# Altium integrated library Analog Devices Data Converters Analog-to-Digital Converters.IntLib: 2400 symbols (part 269 of 338)
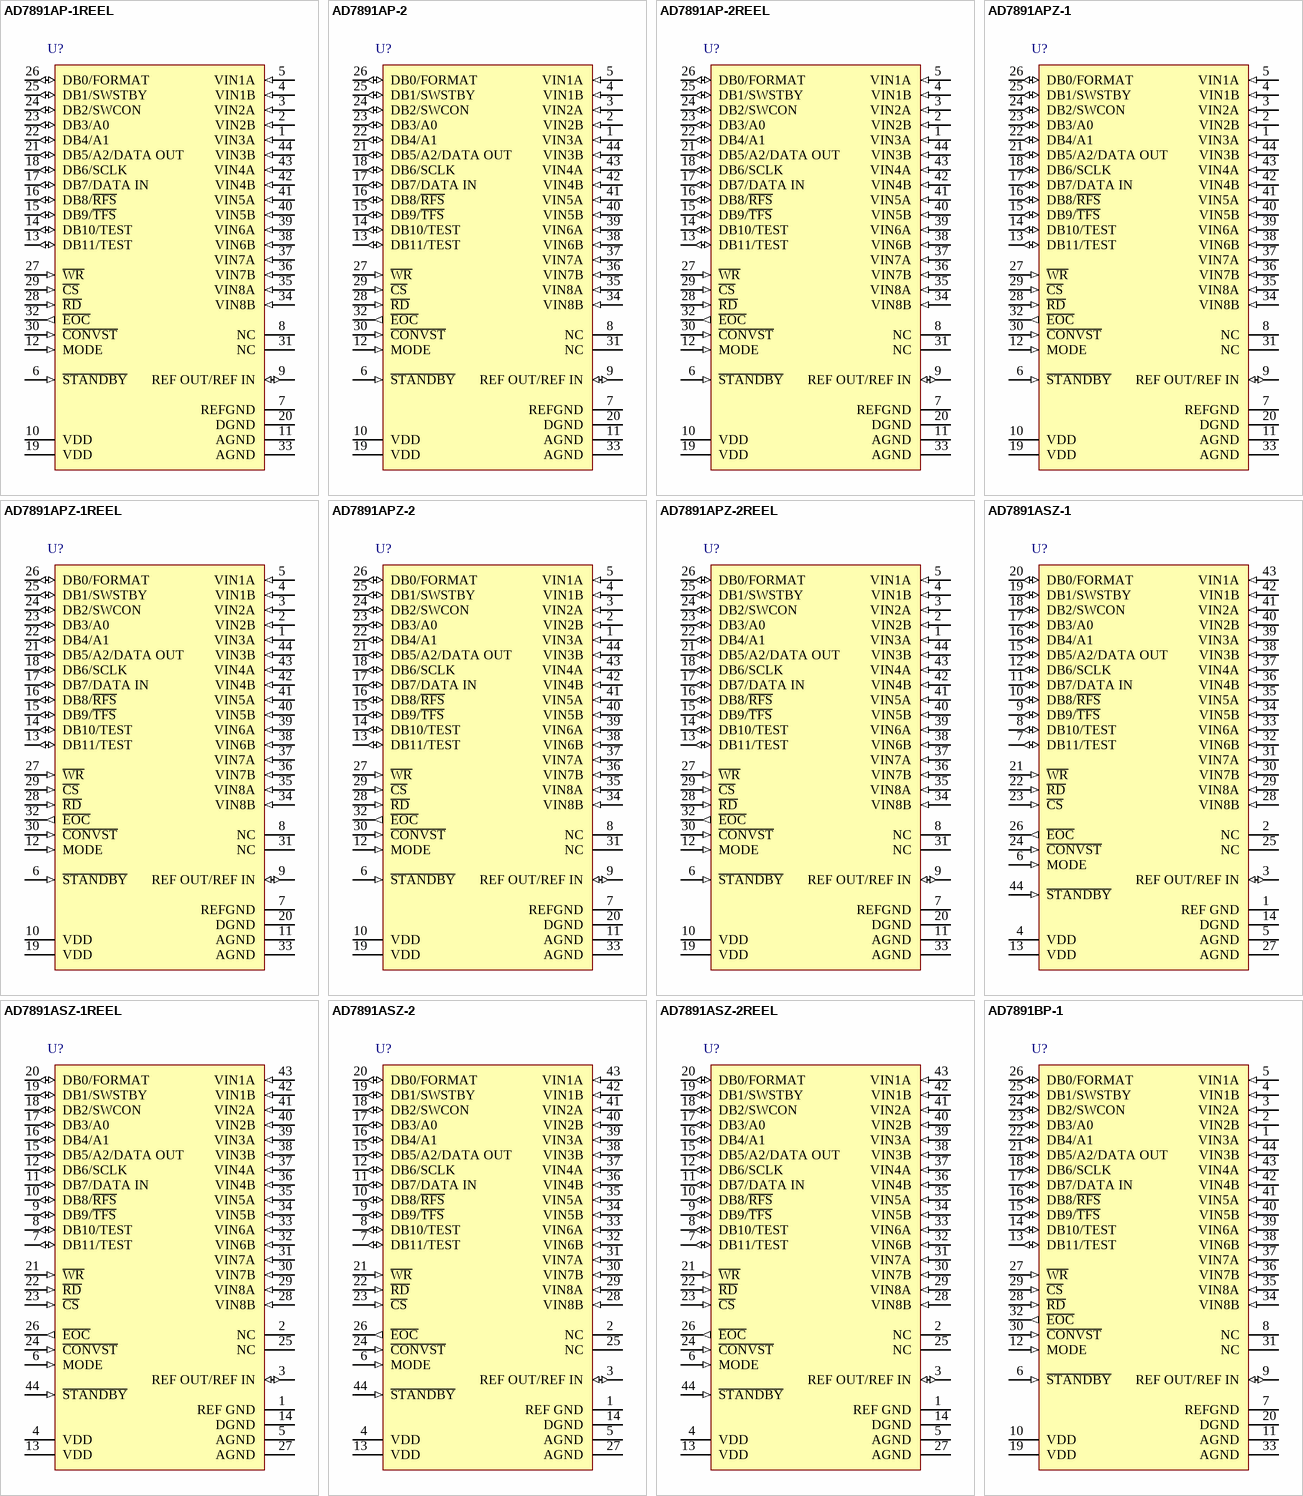
[diagram p300: symbols AD7891AP-1REEL to AD7891BP-1]

## AD7891APZ-1
designator U?
LC2MOS 8 Channel, 12-Bit High Speed Data Acquisition System, 500KSPS, -40 to +85 degC, P-44A, Pb-Free, Tube; Part Number: AD7891; Manufacturer: Analog Devices; Resolution (Bits): 12; Channels: 8; Throughput Rate (SPS): 500K; Interface: Par, Ser; DatasheetVersion: Rev.D; PackageVersion: 2003; PackageReference: P-44A; PackageDescription: 44-Lead Plastic Leaded Chip Carrier [PLCC]; RoHS: Y; Packing: Tube; Mounting Technology: Surface Mount; Code_JEDEC: MO-047-AC; Code_IPC: PLCC-44; ComponentLink1Description: Manufacturer URL; ComponentLink1URL: http://www.analog.com/en/index.html; ComponentLink2Description: Datasheet; ComponentLink2URL: http://www.analog.com/static/imported-files/data_sheets/AD7891.pdf; ComponentLink3Description: Package Specification; ComponentLink3URL: http://www.analog.com/static/imported-files/packages/533756178731793364534243243792136664964P44A.pdf; ComponentLink4Description: Product URL; ComponentLink4URL: http://www.analog.com/en/analog-to-digital-converters/ad-converters/ad7891/products/product.html
footprint P-44A_N (Leaded Chip Carrier, 44-Leads, Body 16.6x16.6mm, Pitch 1.27mm, IPC Medium Density)
footprint P-44A_L (Leaded Chip Carrier, 44-Leads, Body 16.6x16.6mm, Pitch 1.27mm, IPC High Density)
footprint P-44A_M (Leaded Chip Carrier, 44-Leads, Body 16.6x16.6mm, Pitch 1.27mm, IPC Low Density)
pins: 1 VIN3A (in) "Analog Input Channels. The AD7891 contains eight pairs of analog input channels. Each channel contains two input pins to allow a number of different input ranges to be used with the AD7891. There are two possible input (See Datasheet)", 2 VIN2B (in) "Analog Input Channels. The AD7891 contains eight pairs of analog input channels. Each channel contains two input pins to allow a number of different input ranges to be used with the AD7891. There are two possible input (See Datasheet)", 3 VIN2A (in) "Analog Input Channels. The AD7891 contains eight pairs of analog input channels. Each channel contains two input pins to allow a number of different input ranges to be used with the AD7891. There are two possible input (See Datasheet)", 4 VIN1B (in) "Analog Input Channels. The AD7891 contains eight pairs of analog input channels. Each channel contains two input pins to allow a number of different input ranges to be used with the AD7891. There are two possible input (See Datasheet)", 5 VIN1A (in) "Analog Input Channels. The AD7891 contains eight pairs of analog input channels. Each channel contains two input pins to allow a number of different input ranges to be used with the AD7891. There are two possible input (See Datasheet)", 6 ~{STANDBY} (in) "Standby Mode Input. TTL compatible input used to put the device into the power save or standby mode. The S\T\A\N\D\B\Y\ input is high for normal operation and low for standby operation.", 7 REFGND (power) "Reference Ground. Ground reference for the part’s on-chip reference buffer. The REF OUT pin of the part should be decoupled with a 0.1 mF capacitor to this REF GND pin. If the AD7891 is used with an external reference, the (See Datasheet)", 8 NC "No Connect. The two NC pins on the device can be left unconnected. If they are to be connected to a voltage, it should be to ground potential. To ensure correct operation of the AD7891, neither of the NC pins should be (See Datasheet)", 9 REF OUT/REF IN (io) "Voltage Reference Output/Input. The part can either be used with its own internal reference or with an external reference source. The on-chip 2.5 V reference voltage is provided at this pin. When using this internal (See Datasheet)", 10 VDD (power) "Positive Supply Voltage, 5 V +/- 5%.", 11 AGND (power) "Analog Ground. Ground reference for track/hold, comparator, and DAC.", 12 MODE (in) "Interface Mode. Control input that determines the interface mode for the part. With this pin at a logic low, the AD7891 is in its serial interface mode; with this pin at a logic high, the device is in its parallel interface (See Datasheet)", 13 DB11/TEST (io) "Data Bit 11(MSB). Three-state TTL compatible outputs that are controlled by the CS and RD inputs./Test Pin. When the device is configured for serial mode of operation,two of the pins which had   been data inputs become test (See Datasheet)", 14 DB10/TEST (io) "Data Bit 10. Three-state TTL compatible outputs that are controlled by the CS and RD inputs./Test Pin. When the device is configured for serial mode of operation,two of the pins which had   been data inputs become test (See Datasheet)", 15 DB9/~{TFS} (io) "Data Bit 9. Three-state TTL compatible outputs that are controlled by the CS and RD inputs./Transmit Frame Synchronization Pulse. Active low logic input with serial data expected after the falling edge of this signal.", 16 DB8/~{RFS} (io) "Data Bit 8. Three-state TTL compatible outputs that are controlled by the CS and RD inputs./Receive Frame Synchronization Pulse. This is an active low logic input with RFS provided externally as a strobe or framing pulse to (See Datasheet)", 17 DB7/DATA IN (io) "Data Bit 7. Three-state TTL compatible outputs that are controlled by the CS and RD inputs./Serial Data Input. Serial data to be loaded to the control register is provided at this input. The first six bits of serial data are (See Datasheet)", 18 DB6/SCLK (io) "Data Bit 6. Three-state TTL compatible outputs that are controlled by the CS and RD inputs./Serial Clock Input. This is an externally applied serial clock that is used to load serial data to the control register and to (See Datasheet)", 19 VDD (power) "Positive Supply Voltage, 5 V +/- 5%.", 20 DGND (power) "Digital Ground. Ground reference for digital circuitry.", 21 DB5/A2/DATA OUT (io) "Data Bit 5. Three-state TTL compatible outputs that are controlled by the CS and RD inputs./Address Input. The status of this input during a parallel write operation is latched to the A2 bit of the control register (see (See Datasheet)", 22 DB4/A1 (io) "Data Bit 4. Three-state TTL compatible outputs that are controlled by the CS and RD inputs./Address Input. The status of this input during a parallel write operation is latched to the A1 bit of the control register (see (See Datasheet)", 23 DB3/A0 (io) "Data Bit 3. Three-state TTL compatible outputs that are controlled by the CS and RD inputs./Address Input. The status of this input during a parallel write operation is latched to the A0 bit of the control register (see (See Datasheet)", 24 DB2/SWCON (io) "Data Bit 2. Three-state TTL compatible outputs that are controlled by the CS and RD inputs./Software Conversion Start. The status of this input during a parallel write operation is latched to the SWCONV bit of the control (See Datasheet)", 25 DB1/SWSTBY (io) "Data Bit 1. Three-state TTL compatible outputs that are controlled by the CS and RD inputs./Software Standby Control. The status of this input during a parallel write operation is latched to the SWSTBY bit of the control (See Datasheet)", 26 DB0/FORMAT (io) "Data Bit 0 (LSB). Three-state TTL compatible outputs that are controlled by the CS and RD inputs./Data Format Selection. The status of this input during a parallel write operation is latched to the FORMAT bit of the control (See Datasheet)", 27 ~{WR} (in) "Write Input. Active low logic input used in conjunction with C\S\ to latch the multiplexer address and software control information. The rising edge of this input also initiates an internal pulse. When using the software (See Datasheet)", 28 ~{RD} (in) "Read Input. Active low logic input that is used in conjunction with C\S\ low to enable the data outputs.", 29 ~{CS} (in) "Chip Select Input. Active low logic input that is used in conjunction with to enable the data outputs and with W\R\ to allow input data to be written to the part.", 30 ~{CONVST} (in) "Convert Start. Edge-triggered logic input. A low-to-high transition on this input puts the track/hold into hold and initiates conversion. When changing channels on the part, sufficient time should be given for multiplexer (See Datasheet)", 31 NC "No Connect. The two NC pins on the device can be left unconnected. If they are to be connected to a voltage, it should be to ground potential. To ensure correct operation of the AD7891, neither of the NC pins should be (See Datasheet)", 32 ~{EOC} (out) "End-of-Conversion. Active low logic output indicating converter status. The end of conversion is signified by a low-going pulse on this line. The duration of this E\O\C\ pulse is nominally 80 ns.", 33 AGND (power) "Analog Ground. Ground reference for track/hold, comparator, and DAC.", 34 VIN8B (in) "Analog Input Channels. The AD7891 contains eight pairs of analog input channels. Each 34-44 channel contains two input pins to allow a number of different input ranges to be used with the AD7891. There are two possible input (See Datasheet)", 35 VIN8A (in) "Analog Input Channels. The AD7891 contains eight pairs of analog input channels. Each 34-44 channel contains two input pins to allow a number of different input ranges to be used with the AD7891. There are two possible input (See Datasheet)", 36 VIN7B (in) "Analog Input Channels. The AD7891 contains eight pairs of analog input channels. Each 34-44 channel contains two input pins to allow a number of different input ranges to be used with the AD7891. There are two possible input (See Datasheet)", 37 VIN7A (in) "Analog Input Channels. The AD7891 contains eight pairs of analog input channels. Each 34-44 channel contains two input pins to allow a number of different input ranges to be used with the AD7891. There are two possible input (See Datasheet)", 38 VIN6B (in) "Analog Input Channels. The AD7891 contains eight pairs of analog input channels. Each 34-44 channel contains two input pins to allow a number of different input ranges to be used with the AD7891. There are two possible input (See Datasheet)", 39 VIN6A (in) "Analog Input Channels. The AD7891 contains eight pairs of analog input channels. Each 34-44 channel contains two input pins to allow a number of different input ranges to be used with the AD7891. There are two possible input (See Datasheet)", 40 VIN5B (in) "Analog Input Channels. The AD7891 contains eight pairs of analog input channels. Each 34-44 channel contains two input pins to allow a number of different input ranges to be used with the AD7891. There are two possible input (See Datasheet)", 41 VIN5A (in) "Analog Input Channels. The AD7891 contains eight pairs of analog input channels. Each 34-44 channel contains two input pins to allow a number of different input ranges to be used with the AD7891. There are two possible input (See Datasheet)", 42 VIN4B (in) "Analog Input Channels. The AD7891 contains eight pairs of analog input channels. Each 34-44 channel contains two input pins to allow a number of different input ranges to be used with the AD7891. There are two possible input (See Datasheet)", 43 VIN4A (in) "Analog Input Channels. The AD7891 contains eight pairs of analog input channels. Each 34-44 channel contains two input pins to allow a number of different input ranges to be used with the AD7891. There are two possible input (See Datasheet)", 44 VIN3B (in) "Analog Input Channels. The AD7891 contains eight pairs of analog input channels. Each 34-44 channel contains two input pins to allow a number of different input ranges to be used with the AD7891. There are two possible input (See Datasheet)"

## AD7891APZ-1REEL
designator U?
LC2MOS 8 Channel, 12-Bit High Speed Data Acquisition System, 500KSPS, -40 to +85 degC, P-44A, Pb-Free, Reel; Part Number: AD7891; Manufacturer: Analog Devices; Resolution (Bits): 12; Channels: 8; Throughput Rate (SPS): 500K; Interface: Par, Ser; DatasheetVersion: Rev.D; PackageVersion: 2003; PackageReference: P-44A; PackageDescription: 44-Lead Plastic Leaded Chip Carrier [PLCC]; RoHS: Y; Packing: Reel; Mounting Technology: Surface Mount; Code_JEDEC: MO-047-AC; Code_IPC: PLCC-44; ComponentLink1Description: Manufacturer URL; ComponentLink1URL: http://www.analog.com/en/index.html; ComponentLink2Description: Datasheet; ComponentLink2URL: http://www.analog.com/static/imported-files/data_sheets/AD7891.pdf; ComponentLink3Description: Package Specification; ComponentLink3URL: http://www.analog.com/static/imported-files/packages/533756178731793364534243243792136664964P44A.pdf; ComponentLink4Description: Product URL; ComponentLink4URL: http://www.analog.com/en/analog-to-digital-converters/ad-converters/ad7891/products/product.html
footprint P-44A_N (Leaded Chip Carrier, 44-Leads, Body 16.6x16.6mm, Pitch 1.27mm, IPC Medium Density)
footprint P-44A_L (Leaded Chip Carrier, 44-Leads, Body 16.6x16.6mm, Pitch 1.27mm, IPC High Density)
footprint P-44A_M (Leaded Chip Carrier, 44-Leads, Body 16.6x16.6mm, Pitch 1.27mm, IPC Low Density)
pins: 1 VIN3A (in) "Analog Input Channels. The AD7891 contains eight pairs of analog input channels. Each channel contains two input pins to allow a number of different input ranges to be used with the AD7891. There are two possible input (See Datasheet)", 2 VIN2B (in) "Analog Input Channels. The AD7891 contains eight pairs of analog input channels. Each channel contains two input pins to allow a number of different input ranges to be used with the AD7891. There are two possible input (See Datasheet)", 3 VIN2A (in) "Analog Input Channels. The AD7891 contains eight pairs of analog input channels. Each channel contains two input pins to allow a number of different input ranges to be used with the AD7891. There are two possible input (See Datasheet)", 4 VIN1B (in) "Analog Input Channels. The AD7891 contains eight pairs of analog input channels. Each channel contains two input pins to allow a number of different input ranges to be used with the AD7891. There are two possible input (See Datasheet)", 5 VIN1A (in) "Analog Input Channels. The AD7891 contains eight pairs of analog input channels. Each channel contains two input pins to allow a number of different input ranges to be used with the AD7891. There are two possible input (See Datasheet)", 6 ~{STANDBY} (in) "Standby Mode Input. TTL compatible input used to put the device into the power save or standby mode. The S\T\A\N\D\B\Y\ input is high for normal operation and low for standby operation.", 7 REFGND (power) "Reference Ground. Ground reference for the part’s on-chip reference buffer. The REF OUT pin of the part should be decoupled with a 0.1 mF capacitor to this REF GND pin. If the AD7891 is used with an external reference, the (See Datasheet)", 8 NC "No Connect. The two NC pins on the device can be left unconnected. If they are to be connected to a voltage, it should be to ground potential. To ensure correct operation of the AD7891, neither of the NC pins should be (See Datasheet)", 9 REF OUT/REF IN (io) "Voltage Reference Output/Input. The part can either be used with its own internal reference or with an external reference source. The on-chip 2.5 V reference voltage is provided at this pin. When using this internal (See Datasheet)", 10 VDD (power) "Positive Supply Voltage, 5 V +/- 5%.", 11 AGND (power) "Analog Ground. Ground reference for track/hold, comparator, and DAC.", 12 MODE (in) "Interface Mode. Control input that determines the interface mode for the part. With this pin at a logic low, the AD7891 is in its serial interface mode; with this pin at a logic high, the device is in its parallel interface (See Datasheet)", 13 DB11/TEST (io) "Data Bit 11(MSB). Three-state TTL compatible outputs that are controlled by the CS and RD inputs./Test Pin. When the device is configured for serial mode of operation,two of the pins which had   been data inputs become test (See Datasheet)", 14 DB10/TEST (io) "Data Bit 10. Three-state TTL compatible outputs that are controlled by the CS and RD inputs./Test Pin. When the device is configured for serial mode of operation,two of the pins which had   been data inputs become test (See Datasheet)", 15 DB9/~{TFS} (io) "Data Bit 9. Three-state TTL compatible outputs that are controlled by the CS and RD inputs./Transmit Frame Synchronization Pulse. Active low logic input with serial data expected after the falling edge of this signal.", 16 DB8/~{RFS} (io) "Data Bit 8. Three-state TTL compatible outputs that are controlled by the CS and RD inputs./Receive Frame Synchronization Pulse. This is an active low logic input with RFS provided externally as a strobe or framing pulse to (See Datasheet)", 17 DB7/DATA IN (io) "Data Bit 7. Three-state TTL compatible outputs that are controlled by the CS and RD inputs./Serial Data Input. Serial data to be loaded to the control register is provided at this input. The first six bits of serial data are (See Datasheet)", 18 DB6/SCLK (io) "Data Bit 6. Three-state TTL compatible outputs that are controlled by the CS and RD inputs./Serial Clock Input. This is an externally applied serial clock that is used to load serial data to the control register and to (See Datasheet)", 19 VDD (power) "Positive Supply Voltage, 5 V +/- 5%.", 20 DGND (power) "Digital Ground. Ground reference for digital circuitry.", 21 DB5/A2/DATA OUT (io) "Data Bit 5. Three-state TTL compatible outputs that are controlled by the CS and RD inputs./Address Input. The status of this input during a parallel write operation is latched to the A2 bit of the control register (see (See Datasheet)", 22 DB4/A1 (io) "Data Bit 4. Three-state TTL compatible outputs that are controlled by the CS and RD inputs./Address Input. The status of this input during a parallel write operation is latched to the A1 bit of the control register (see (See Datasheet)", 23 DB3/A0 (io) "Data Bit 3. Three-state TTL compatible outputs that are controlled by the CS and RD inputs./Address Input. The status of this input during a parallel write operation is latched to the A0 bit of the control register (see (See Datasheet)", 24 DB2/SWCON (io) "Data Bit 2. Three-state TTL compatible outputs that are controlled by the CS and RD inputs./Software Conversion Start. The status of this input during a parallel write operation is latched to the SWCONV bit of the control (See Datasheet)", 25 DB1/SWSTBY (io) "Data Bit 1. Three-state TTL compatible outputs that are controlled by the CS and RD inputs./Software Standby Control. The status of this input during a parallel write operation is latched to the SWSTBY bit of the control (See Datasheet)", 26 DB0/FORMAT (io) "Data Bit 0 (LSB). Three-state TTL compatible outputs that are controlled by the CS and RD inputs./Data Format Selection. The status of this input during a parallel write operation is latched to the FORMAT bit of the control (See Datasheet)", 27 ~{WR} (in) "Write Input. Active low logic input used in conjunction with C\S\ to latch the multiplexer address and software control information. The rising edge of this input also initiates an internal pulse. When using the software (See Datasheet)", 28 ~{RD} (in) "Read Input. Active low logic input that is used in conjunction with C\S\ low to enable the data outputs.", 29 ~{CS} (in) "Chip Select Input. Active low logic input that is used in conjunction with to enable the data outputs and with W\R\ to allow input data to be written to the part.", 30 ~{CONVST} (in) "Convert Start. Edge-triggered logic input. A low-to-high transition on this input puts the track/hold into hold and initiates conversion. When changing channels on the part, sufficient time should be given for multiplexer (See Datasheet)", 31 NC "No Connect. The two NC pins on the device can be left unconnected. If they are to be connected to a voltage, it should be to ground potential. To ensure correct operation of the AD7891, neither of the NC pins should be (See Datasheet)", 32 ~{EOC} (out) "End-of-Conversion. Active low logic output indicating converter status. The end of conversion is signified by a low-going pulse on this line. The duration of this E\O\C\ pulse is nominally 80 ns.", 33 AGND (power) "Analog Ground. Ground reference for track/hold, comparator, and DAC.", 34 VIN8B (in) "Analog Input Channels. The AD7891 contains eight pairs of analog input channels. Each 34-44 channel contains two input pins to allow a number of different input ranges to be used with the AD7891. There are two possible input (See Datasheet)", 35 VIN8A (in) "Analog Input Channels. The AD7891 contains eight pairs of analog input channels. Each 34-44 channel contains two input pins to allow a number of different input ranges to be used with the AD7891. There are two possible input (See Datasheet)", 36 VIN7B (in) "Analog Input Channels. The AD7891 contains eight pairs of analog input channels. Each 34-44 channel contains two input pins to allow a number of different input ranges to be used with the AD7891. There are two possible input (See Datasheet)", 37 VIN7A (in) "Analog Input Channels. The AD7891 contains eight pairs of analog input channels. Each 34-44 channel contains two input pins to allow a number of different input ranges to be used with the AD7891. There are two possible input (See Datasheet)", 38 VIN6B (in) "Analog Input Channels. The AD7891 contains eight pairs of analog input channels. Each 34-44 channel contains two input pins to allow a number of different input ranges to be used with the AD7891. There are two possible input (See Datasheet)", 39 VIN6A (in) "Analog Input Channels. The AD7891 contains eight pairs of analog input channels. Each 34-44 channel contains two input pins to allow a number of different input ranges to be used with the AD7891. There are two possible input (See Datasheet)", 40 VIN5B (in) "Analog Input Channels. The AD7891 contains eight pairs of analog input channels. Each 34-44 channel contains two input pins to allow a number of different input ranges to be used with the AD7891. There are two possible input (See Datasheet)", 41 VIN5A (in) "Analog Input Channels. The AD7891 contains eight pairs of analog input channels. Each 34-44 channel contains two input pins to allow a number of different input ranges to be used with the AD7891. There are two possible input (See Datasheet)", 42 VIN4B (in) "Analog Input Channels. The AD7891 contains eight pairs of analog input channels. Each 34-44 channel contains two input pins to allow a number of different input ranges to be used with the AD7891. There are two possible input (See Datasheet)", 43 VIN4A (in) "Analog Input Channels. The AD7891 contains eight pairs of analog input channels. Each 34-44 channel contains two input pins to allow a number of different input ranges to be used with the AD7891. There are two possible input (See Datasheet)", 44 VIN3B (in) "Analog Input Channels. The AD7891 contains eight pairs of analog input channels. Each 34-44 channel contains two input pins to allow a number of different input ranges to be used with the AD7891. There are two possible input (See Datasheet)"

## AD7891APZ-2
designator U?
LC2MOS 8 Channel, 12-Bit High Speed Data Acquisition System, 500KSPS, -40 to +85 degC, P-44A, Pb-Free, Tube; Part Number: AD7891; Manufacturer: Analog Devices; Resolution (Bits): 12; Channels: 8; Throughput Rate (SPS): 500K; Interface: Par, Ser; DatasheetVersion: Rev.D; PackageVersion: 2003; PackageReference: P-44A; PackageDescription: 44-Lead Plastic Leaded Chip Carrier [PLCC]; RoHS: Y; Packing: Tube; Mounting Technology: Surface Mount; Code_JEDEC: MO-047-AC; Code_IPC: PLCC-44; ComponentLink1Description: Manufacturer URL; ComponentLink1URL: http://www.analog.com/en/index.html; ComponentLink2Description: Datasheet; ComponentLink2URL: http://www.analog.com/static/imported-files/data_sheets/AD7891.pdf; ComponentLink3Description: Package Specification; ComponentLink3URL: http://www.analog.com/static/imported-files/packages/533756178731793364534243243792136664964P44A.pdf; ComponentLink4Description: Product URL; ComponentLink4URL: http://www.analog.com/en/analog-to-digital-converters/ad-converters/ad7891/products/product.html
footprint P-44A_N (Leaded Chip Carrier, 44-Leads, Body 16.6x16.6mm, Pitch 1.27mm, IPC Medium Density)
footprint P-44A_L (Leaded Chip Carrier, 44-Leads, Body 16.6x16.6mm, Pitch 1.27mm, IPC High Density)
footprint P-44A_M (Leaded Chip Carrier, 44-Leads, Body 16.6x16.6mm, Pitch 1.27mm, IPC Low Density)
pins: 1 VIN3A (in) "Analog Input Channels. The AD7891 contains eight pairs of analog input channels. Each channel contains two input pins to allow a number of different input ranges to be used with the AD7891. There are two possible input (See Datasheet)", 2 VIN2B (in) "Analog Input Channels. The AD7891 contains eight pairs of analog input channels. Each channel contains two input pins to allow a number of different input ranges to be used with the AD7891. There are two possible input (See Datasheet)", 3 VIN2A (in) "Analog Input Channels. The AD7891 contains eight pairs of analog input channels. Each channel contains two input pins to allow a number of different input ranges to be used with the AD7891. There are two possible input (See Datasheet)", 4 VIN1B (in) "Analog Input Channels. The AD7891 contains eight pairs of analog input channels. Each channel contains two input pins to allow a number of different input ranges to be used with the AD7891. There are two possible input (See Datasheet)", 5 VIN1A (in) "Analog Input Channels. The AD7891 contains eight pairs of analog input channels. Each channel contains two input pins to allow a number of different input ranges to be used with the AD7891. There are two possible input (See Datasheet)", 6 ~{STANDBY} (in) "Standby Mode Input. TTL compatible input used to put the device into the power save or standby mode. The S\T\A\N\D\B\Y\ input is high for normal operation and low for standby operation.", 7 REFGND (power) "Reference Ground. Ground reference for the part’s on-chip reference buffer. The REF OUT pin of the part should be decoupled with a 0.1 mF capacitor to this REF GND pin. If the AD7891 is used with an external reference, the (See Datasheet)", 8 NC "No Connect. The two NC pins on the device can be left unconnected. If they are to be connected to a voltage, it should be to ground potential. To ensure correct operation of the AD7891, neither of the NC pins should be (See Datasheet)", 9 REF OUT/REF IN (io) "Voltage Reference Output/Input. The part can either be used with its own internal reference or with an external reference source. The on-chip 2.5 V reference voltage is provided at this pin. When using this internal (See Datasheet)", 10 VDD (power) "Positive Supply Voltage, 5 V +/- 5%.", 11 AGND (power) "Analog Ground. Ground reference for track/hold, comparator, and DAC.", 12 MODE (in) "Interface Mode. Control input that determines the interface mode for the part. With this pin at a logic low, the AD7891 is in its serial interface mode; with this pin at a logic high, the device is in its parallel interface (See Datasheet)", 13 DB11/TEST (io) "Data Bit 11(MSB). Three-state TTL compatible outputs that are controlled by the CS and RD inputs./Test Pin. When the device is configured for serial mode of operation,two of the pins which had   been data inputs become test (See Datasheet)", 14 DB10/TEST (io) "Data Bit 10. Three-state TTL compatible outputs that are controlled by the CS and RD inputs./Test Pin. When the device is configured for serial mode of operation,two of the pins which had   been data inputs become test (See Datasheet)", 15 DB9/~{TFS} (io) "Data Bit 9. Three-state TTL compatible outputs that are controlled by the CS and RD inputs./Transmit Frame Synchronization Pulse. Active low logic input with serial data expected after the falling edge of this signal.", 16 DB8/~{RFS} (io) "Data Bit 8. Three-state TTL compatible outputs that are controlled by the CS and RD inputs./Receive Frame Synchronization Pulse. This is an active low logic input with RFS provided externally as a strobe or framing pulse to (See Datasheet)", 17 DB7/DATA IN (io) "Data Bit 7. Three-state TTL compatible outputs that are controlled by the CS and RD inputs./Serial Data Input. Serial data to be loaded to the control register is provided at this input. The first six bits of serial data are (See Datasheet)", 18 DB6/SCLK (io) "Data Bit 6. Three-state TTL compatible outputs that are controlled by the CS and RD inputs./Serial Clock Input. This is an externally applied serial clock that is used to load serial data to the control register and to (See Datasheet)", 19 VDD (power) "Positive Supply Voltage, 5 V +/- 5%.", 20 DGND (power) "Digital Ground. Ground reference for digital circuitry.", 21 DB5/A2/DATA OUT (io) "Data Bit 5. Three-state TTL compatible outputs that are controlled by the CS and RD inputs./Address Input. The status of this input during a parallel write operation is latched to the A2 bit of the control register (see (See Datasheet)", 22 DB4/A1 (io) "Data Bit 4. Three-state TTL compatible outputs that are controlled by the CS and RD inputs./Address Input. The status of this input during a parallel write operation is latched to the A1 bit of the control register (see (See Datasheet)", 23 DB3/A0 (io) "Data Bit 3. Three-state TTL compatible outputs that are controlled by the CS and RD inputs./Address Input. The status of this input during a parallel write operation is latched to the A0 bit of the control register (see (See Datasheet)", 24 DB2/SWCON (io) "Data Bit 2. Three-state TTL compatible outputs that are controlled by the CS and RD inputs./Software Conversion Start. The status of this input during a parallel write operation is latched to the SWCONV bit of the control (See Datasheet)", 25 DB1/SWSTBY (io) "Data Bit 1. Three-state TTL compatible outputs that are controlled by the CS and RD inputs./Software Standby Control. The status of this input during a parallel write operation is latched to the SWSTBY bit of the control (See Datasheet)", 26 DB0/FORMAT (io) "Data Bit 0 (LSB). Three-state TTL compatible outputs that are controlled by the CS and RD inputs./Data Format Selection. The status of this input during a parallel write operation is latched to the FORMAT bit of the control (See Datasheet)", 27 ~{WR} (in) "Write Input. Active low logic input used in conjunction with C\S\ to latch the multiplexer address and software control information. The rising edge of this input also initiates an internal pulse. When using the software (See Datasheet)", 28 ~{RD} (in) "Read Input. Active low logic input that is used in conjunction with C\S\ low to enable the data outputs.", 29 ~{CS} (in) "Chip Select Input. Active low logic input that is used in conjunction with to enable the data outputs and with W\R\ to allow input data to be written to the part.", 30 ~{CONVST} (in) "Convert Start. Edge-triggered logic input. A low-to-high transition on this input puts the track/hold into hold and initiates conversion. When changing channels on the part, sufficient time should be given for multiplexer (See Datasheet)", 31 NC "No Connect. The two NC pins on the device can be left unconnected. If they are to be connected to a voltage, it should be to ground potential. To ensure correct operation of the AD7891, neither of the NC pins should be (See Datasheet)", 32 ~{EOC} (out) "End-of-Conversion. Active low logic output indicating converter status. The end of conversion is signified by a low-going pulse on this line. The duration of this E\O\C\ pulse is nominally 80 ns.", 33 AGND (power) "Analog Ground. Ground reference for track/hold, comparator, and DAC.", 34 VIN8B (in) "Analog Input Channels. The AD7891 contains eight pairs of analog input channels. Each 34-44 channel contains two input pins to allow a number of different input ranges to be used with the AD7891. There are two possible input (See Datasheet)", 35 VIN8A (in) "Analog Input Channels. The AD7891 contains eight pairs of analog input channels. Each 34-44 channel contains two input pins to allow a number of different input ranges to be used with the AD7891. There are two possible input (See Datasheet)", 36 VIN7B (in) "Analog Input Channels. The AD7891 contains eight pairs of analog input channels. Each 34-44 channel contains two input pins to allow a number of different input ranges to be used with the AD7891. There are two possible input (See Datasheet)", 37 VIN7A (in) "Analog Input Channels. The AD7891 contains eight pairs of analog input channels. Each 34-44 channel contains two input pins to allow a number of different input ranges to be used with the AD7891. There are two possible input (See Datasheet)", 38 VIN6B (in) "Analog Input Channels. The AD7891 contains eight pairs of analog input channels. Each 34-44 channel contains two input pins to allow a number of different input ranges to be used with the AD7891. There are two possible input (See Datasheet)", 39 VIN6A (in) "Analog Input Channels. The AD7891 contains eight pairs of analog input channels. Each 34-44 channel contains two input pins to allow a number of different input ranges to be used with the AD7891. There are two possible input (See Datasheet)", 40 VIN5B (in) "Analog Input Channels. The AD7891 contains eight pairs of analog input channels. Each 34-44 channel contains two input pins to allow a number of different input ranges to be used with the AD7891. There are two possible input (See Datasheet)", 41 VIN5A (in) "Analog Input Channels. The AD7891 contains eight pairs of analog input channels. Each 34-44 channel contains two input pins to allow a number of different input ranges to be used with the AD7891. There are two possible input (See Datasheet)", 42 VIN4B (in) "Analog Input Channels. The AD7891 contains eight pairs of analog input channels. Each 34-44 channel contains two input pins to allow a number of different input ranges to be used with the AD7891. There are two possible input (See Datasheet)", 43 VIN4A (in) "Analog Input Channels. The AD7891 contains eight pairs of analog input channels. Each 34-44 channel contains two input pins to allow a number of different input ranges to be used with the AD7891. There are two possible input (See Datasheet)", 44 VIN3B (in) "Analog Input Channels. The AD7891 contains eight pairs of analog input channels. Each 34-44 channel contains two input pins to allow a number of different input ranges to be used with the AD7891. There are two possible input (See Datasheet)"

## AD7891APZ-2REEL
designator U?
LC2MOS 8 Channel, 12-Bit High Speed Data Acquisition System, 500KSPS, -40 to +85 degC, P-44A, Pb-Free, Reel; Part Number: AD7891; Manufacturer: Analog Devices; Resolution (Bits): 12; Channels: 8; Throughput Rate (SPS): 500K; Interface: Par, Ser; DatasheetVersion: Rev.D; PackageVersion: 2003; PackageReference: P-44A; PackageDescription: 44-Lead Plastic Leaded Chip Carrier [PLCC]; RoHS: Y; Packing: Reel; Mounting Technology: Surface Mount; Code_JEDEC: MO-047-AC; Code_IPC: PLCC-44; ComponentLink1Description: Manufacturer URL; ComponentLink1URL: http://www.analog.com/en/index.html; ComponentLink2Description: Datasheet; ComponentLink2URL: http://www.analog.com/static/imported-files/data_sheets/AD7891.pdf; ComponentLink3Description: Package Specification; ComponentLink3URL: http://www.analog.com/static/imported-files/packages/533756178731793364534243243792136664964P44A.pdf; ComponentLink4Description: Product URL; ComponentLink4URL: http://www.analog.com/en/analog-to-digital-converters/ad-converters/ad7891/products/product.html
footprint P-44A_N (Leaded Chip Carrier, 44-Leads, Body 16.6x16.6mm, Pitch 1.27mm, IPC Medium Density)
footprint P-44A_L (Leaded Chip Carrier, 44-Leads, Body 16.6x16.6mm, Pitch 1.27mm, IPC High Density)
footprint P-44A_M (Leaded Chip Carrier, 44-Leads, Body 16.6x16.6mm, Pitch 1.27mm, IPC Low Density)
pins: 1 VIN3A (in) "Analog Input Channels. The AD7891 contains eight pairs of analog input channels. Each channel contains two input pins to allow a number of different input ranges to be used with the AD7891. There are two possible input (See Datasheet)", 2 VIN2B (in) "Analog Input Channels. The AD7891 contains eight pairs of analog input channels. Each channel contains two input pins to allow a number of different input ranges to be used with the AD7891. There are two possible input (See Datasheet)", 3 VIN2A (in) "Analog Input Channels. The AD7891 contains eight pairs of analog input channels. Each channel contains two input pins to allow a number of different input ranges to be used with the AD7891. There are two possible input (See Datasheet)", 4 VIN1B (in) "Analog Input Channels. The AD7891 contains eight pairs of analog input channels. Each channel contains two input pins to allow a number of different input ranges to be used with the AD7891. There are two possible input (See Datasheet)", 5 VIN1A (in) "Analog Input Channels. The AD7891 contains eight pairs of analog input channels. Each channel contains two input pins to allow a number of different input ranges to be used with the AD7891. There are two possible input (See Datasheet)", 6 ~{STANDBY} (in) "Standby Mode Input. TTL compatible input used to put the device into the power save or standby mode. The S\T\A\N\D\B\Y\ input is high for normal operation and low for standby operation.", 7 REFGND (power) "Reference Ground. Ground reference for the part’s on-chip reference buffer. The REF OUT pin of the part should be decoupled with a 0.1 mF capacitor to this REF GND pin. If the AD7891 is used with an external reference, the (See Datasheet)", 8 NC "No Connect. The two NC pins on the device can be left unconnected. If they are to be connected to a voltage, it should be to ground potential. To ensure correct operation of the AD7891, neither of the NC pins should be (See Datasheet)", 9 REF OUT/REF IN (io) "Voltage Reference Output/Input. The part can either be used with its own internal reference or with an external reference source. The on-chip 2.5 V reference voltage is provided at this pin. When using this internal (See Datasheet)", 10 VDD (power) "Positive Supply Voltage, 5 V +/- 5%.", 11 AGND (power) "Analog Ground. Ground reference for track/hold, comparator, and DAC.", 12 MODE (in) "Interface Mode. Control input that determines the interface mode for the part. With this pin at a logic low, the AD7891 is in its serial interface mode; with this pin at a logic high, the device is in its parallel interface (See Datasheet)", 13 DB11/TEST (io) "Data Bit 11(MSB). Three-state TTL compatible outputs that are controlled by the CS and RD inputs./Test Pin. When the device is configured for serial mode of operation,two of the pins which had   been data inputs become test (See Datasheet)", 14 DB10/TEST (io) "Data Bit 10. Three-state TTL compatible outputs that are controlled by the CS and RD inputs./Test Pin. When the device is configured for serial mode of operation,two of the pins which had   been data inputs become test (See Datasheet)", 15 DB9/~{TFS} (io) "Data Bit 9. Three-state TTL compatible outputs that are controlled by the CS and RD inputs./Transmit Frame Synchronization Pulse. Active low logic input with serial data expected after the falling edge of this signal.", 16 DB8/~{RFS} (io) "Data Bit 8. Three-state TTL compatible outputs that are controlled by the CS and RD inputs./Receive Frame Synchronization Pulse. This is an active low logic input with RFS provided externally as a strobe or framing pulse to (See Datasheet)", 17 DB7/DATA IN (io) "Data Bit 7. Three-state TTL compatible outputs that are controlled by the CS and RD inputs./Serial Data Input. Serial data to be loaded to the control register is provided at this input. The first six bits of serial data are (See Datasheet)", 18 DB6/SCLK (io) "Data Bit 6. Three-state TTL compatible outputs that are controlled by the CS and RD inputs./Serial Clock Input. This is an externally applied serial clock that is used to load serial data to the control register and to (See Datasheet)", 19 VDD (power) "Positive Supply Voltage, 5 V +/- 5%.", 20 DGND (power) "Digital Ground. Ground reference for digital circuitry.", 21 DB5/A2/DATA OUT (io) "Data Bit 5. Three-state TTL compatible outputs that are controlled by the CS and RD inputs./Address Input. The status of this input during a parallel write operation is latched to the A2 bit of the control register (see (See Datasheet)", 22 DB4/A1 (io) "Data Bit 4. Three-state TTL compatible outputs that are controlled by the CS and RD inputs./Address Input. The status of this input during a parallel write operation is latched to the A1 bit of the control register (see (See Datasheet)", 23 DB3/A0 (io) "Data Bit 3. Three-state TTL compatible outputs that are controlled by the CS and RD inputs./Address Input. The status of this input during a parallel write operation is latched to the A0 bit of the control register (see (See Datasheet)", 24 DB2/SWCON (io) "Data Bit 2. Three-state TTL compatible outputs that are controlled by the CS and RD inputs./Software Conversion Start. The status of this input during a parallel write operation is latched to the SWCONV bit of the control (See Datasheet)", 25 DB1/SWSTBY (io) "Data Bit 1. Three-state TTL compatible outputs that are controlled by the CS and RD inputs./Software Standby Control. The status of this input during a parallel write operation is latched to the SWSTBY bit of the control (See Datasheet)", 26 DB0/FORMAT (io) "Data Bit 0 (LSB). Three-state TTL compatible outputs that are controlled by the CS and RD inputs./Data Format Selection. The status of this input during a parallel write operation is latched to the FORMAT bit of the control (See Datasheet)", 27 ~{WR} (in) "Write Input. Active low logic input used in conjunction with C\S\ to latch the multiplexer address and software control information. The rising edge of this input also initiates an internal pulse. When using the software (See Datasheet)", 28 ~{RD} (in) "Read Input. Active low logic input that is used in conjunction with C\S\ low to enable the data outputs.", 29 ~{CS} (in) "Chip Select Input. Active low logic input that is used in conjunction with to enable the data outputs and with W\R\ to allow input data to be written to the part.", 30 ~{CONVST} (in) "Convert Start. Edge-triggered logic input. A low-to-high transition on this input puts the track/hold into hold and initiates conversion. When changing channels on the part, sufficient time should be given for multiplexer (See Datasheet)", 31 NC "No Connect. The two NC pins on the device can be left unconnected. If they are to be connected to a voltage, it should be to ground potential. To ensure correct operation of the AD7891, neither of the NC pins should be (See Datasheet)", 32 ~{EOC} (out) "End-of-Conversion. Active low logic output indicating converter status. The end of conversion is signified by a low-going pulse on this line. The duration of this E\O\C\ pulse is nominally 80 ns.", 33 AGND (power) "Analog Ground. Ground reference for track/hold, comparator, and DAC.", 34 VIN8B (in) "Analog Input Channels. The AD7891 contains eight pairs of analog input channels. Each 34-44 channel contains two input pins to allow a number of different input ranges to be used with the AD7891. There are two possible input (See Datasheet)", 35 VIN8A (in) "Analog Input Channels. The AD7891 contains eight pairs of analog input channels. Each 34-44 channel contains two input pins to allow a number of different input ranges to be used with the AD7891. There are two possible input (See Datasheet)", 36 VIN7B (in) "Analog Input Channels. The AD7891 contains eight pairs of analog input channels. Each 34-44 channel contains two input pins to allow a number of different input ranges to be used with the AD7891. There are two possible input (See Datasheet)", 37 VIN7A (in) "Analog Input Channels. The AD7891 contains eight pairs of analog input channels. Each 34-44 channel contains two input pins to allow a number of different input ranges to be used with the AD7891. There are two possible input (See Datasheet)", 38 VIN6B (in) "Analog Input Channels. The AD7891 contains eight pairs of analog input channels. Each 34-44 channel contains two input pins to allow a number of different input ranges to be used with the AD7891. There are two possible input (See Datasheet)", 39 VIN6A (in) "Analog Input Channels. The AD7891 contains eight pairs of analog input channels. Each 34-44 channel contains two input pins to allow a number of different input ranges to be used with the AD7891. There are two possible input (See Datasheet)", 40 VIN5B (in) "Analog Input Channels. The AD7891 contains eight pairs of analog input channels. Each 34-44 channel contains two input pins to allow a number of different input ranges to be used with the AD7891. There are two possible input (See Datasheet)", 41 VIN5A (in) "Analog Input Channels. The AD7891 contains eight pairs of analog input channels. Each 34-44 channel contains two input pins to allow a number of different input ranges to be used with the AD7891. There are two possible input (See Datasheet)", 42 VIN4B (in) "Analog Input Channels. The AD7891 contains eight pairs of analog input channels. Each 34-44 channel contains two input pins to allow a number of different input ranges to be used with the AD7891. There are two possible input (See Datasheet)", 43 VIN4A (in) "Analog Input Channels. The AD7891 contains eight pairs of analog input channels. Each 34-44 channel contains two input pins to allow a number of different input ranges to be used with the AD7891. There are two possible input (See Datasheet)", 44 VIN3B (in) "Analog Input Channels. The AD7891 contains eight pairs of analog input channels. Each 34-44 channel contains two input pins to allow a number of different input ranges to be used with the AD7891. There are two possible input (See Datasheet)"